# Altium integrated library LM3489MMX NOPB.IntLib: 1 symbol
Pins are listed as number, name and electrical type; pins without a type are passive.

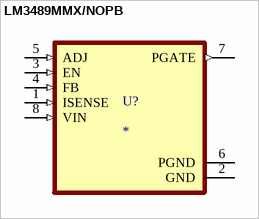
[diagram p0: symbol LM3489MMX/NOPB]

## LM3489MMX/NOPB
designator U?
MP: LM3489MMX/NOPB; Package: None; Price: None; Value: *; Availability: Unavailable
footprint SOP65P490X110-8N
pins: 1 ISENSE (in), 2 GND (power), 3 EN (in), 4 FB (in), 5 ADJ (in), 6 PGND (power), 7 PGATE (out), 8 VIN (in)